# Altium schematic symbol library LF33ABDT-TR.SchLib: 1 symbol
Pins are listed as number, name and electrical type; pins without a type are passive.

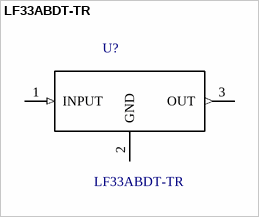
[diagram p0: symbol LF33ABDT-TR]

## LF33ABDT-TR
designator U?
LF33 Series 3.3 V 500 mA Very Low Drop Voltage Regulator with Inhibit - TO-252; MF: STMicroelectronics; Price: None; Package: TO-252 STMicroelectronics; Availability: Unavailable; MP: LF33ABDT-TR; SnapEDA_Link: https://www.snapeda.com/parts/LF33ABDT-TR/STMicroelectronics/view-part/?ref=snap; Value: *
footprint *TO228P972X240-3N
pins: 1 INPUT (in), 2 GND, 3 OUT (out)